# Altium footprint library CP2102-GM.PcbLib: 3 footprints
Each footprint in its own frame and in the unit in brackets; x right, y up, seen from the top. Pads: shape width x height; smd on the part's side, far side on the other; paste and mask are expansions set on the pad; w line width, h text height; cw(c..) or ccw(c..) is an arc to the next point about the centre after c.
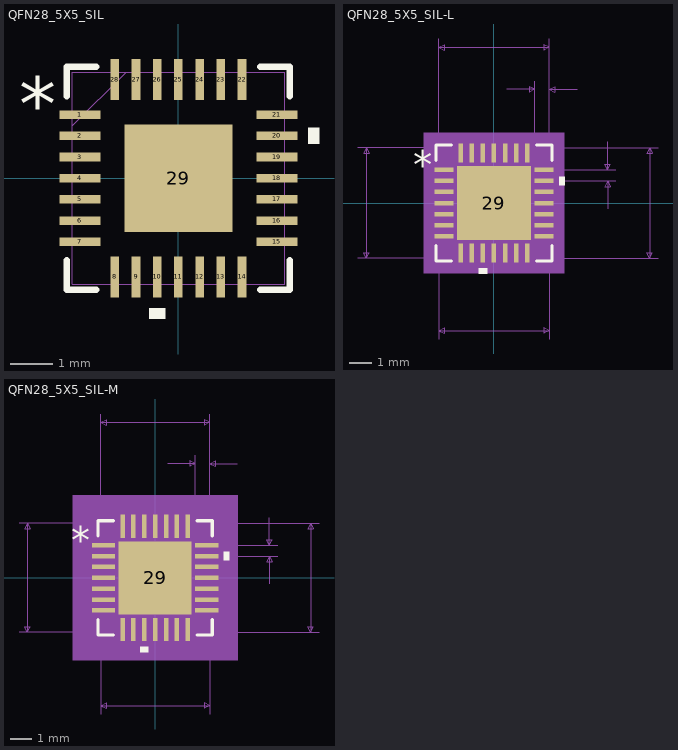
[diagram p0: the footprints below, top view; thin cyan lines are the x and y axes]

## QFN28_5X5_SIL [mil]
pads (29):
  rect 38x8 smd paste+0 mask+0: 1(-91.5,59.06) 2(-91.5,39.37) 3(-91.5,19.68) 4(-91.5,0) 5(-91.5,-19.68) 6(-91.5,-39.37) 7(-91.5,-59.06) 15(91.5,-59.06) 16(91.5,-39.37) 17(91.5,-19.68) 18(91.5,0) 19(91.5,19.68) 20(91.5,39.37) 21(91.5,59.06)
  rect 8x38 smd paste+0 mask+0: 8(-59.06,-91.5) 9(-39.37,-91.5) 10(-19.68,-91.5) 11(0,-91.5) 12(19.68,-91.5) 13(39.37,-91.5) 14(59.06,-91.5) 22(59.06,91.5) 23(39.37,91.5) 24(19.68,91.5) 25(0,91.5) 26(-19.68,91.5) 27(-39.37,91.5) 28(-59.06,91.5)
  rect 100x100 smd paste-65.5 mask+0: 29(0,0)
Top Overlay:
  region: -12.19,-120.5 -27.18,-120.5 -27.18,-130.5 -12.19,-130.5
  region: 120.5,46.87 130.5,46.87 130.5,31.87 120.5,31.87
  lines w6: -103.5,-76.16 -103.5,-103.5 -76.16,-103.5 ; -103.5,76.16 -103.5,103.5 -76.16,103.5 ; 76.16,-103.5 103.5,-103.5 103.5,-76.16 ; 76.16,103.5 103.5,103.5 103.5,76.16
  text "*" at -148,43.9 h50
Top Paste:
  region: -3.94,50 -50,50 -50,3.94 -3.94,3.94
  region: -3.94,-3.94 -50,-3.94 -50,-50 -3.94,-50
  region: 50,50 3.94,50 3.94,3.94 50,3.94
  region: 50,-3.94 3.94,-3.94 3.94,-50 50,-50
Mechanical 13:
  lines w1: -98.5,48.5 -48.5,98.5 ; -98.5,-98.5 98.5,-98.5 98.5,98.5 -98.5,98.5 -98.5,-98.5 ; -98.5,-65.06 -98.5,-53.06 -98.5,-65.06 ; -98.5,-45.37 -98.5,-33.37 -98.5,-45.37 ; -98.5,-25.68 -98.5,-13.69 -98.5,-25.68 ; -98.5,-6 -98.5,6 -98.5,-6 ; -98.5,13.69 -98.5,25.68 -98.5,13.69 ; -98.5,33.37 -98.5,45.37 -98.5,33.37 ; -98.5,53.06 -98.5,65.06 -98.5,53.06 ; -65.06,-98.5 -53.06,-98.5 -65.06,-98.5 ; -65.06,98.5 -53.06,98.5 -65.06,98.5 ; -45.37,-98.5 -33.37,-98.5 -45.37,-98.5 ; -45.37,98.5 -33.37,98.5 -45.37,98.5 ; -25.68,-98.5 -13.69,-98.5 -25.68,-98.5 ; -25.68,98.5 -13.69,98.5 -25.68,98.5 ; -6,-98.5 6,-98.5 -6,-98.5 ; -6,98.5 6,98.5 -6,98.5 ; 13.69,-98.5 25.68,-98.5 13.69,-98.5 ; 13.69,98.5 25.68,98.5 13.69,98.5 ; 33.37,-98.5 45.37,-98.5 33.37,-98.5 ; 33.37,98.5 45.37,98.5 33.37,98.5 ; 53.06,-98.5 65.06,-98.5 53.06,-98.5 ; 53.06,98.5 65.06,98.5 53.06,98.5 ; 98.5,-65.06 98.5,-53.06 98.5,-65.06 ; 98.5,-45.37 98.5,-33.37 98.5,-45.37 ; 98.5,-25.68 98.5,-13.69 98.5,-25.68 ; 98.5,-6 98.5,6 98.5,-6 ; 98.5,13.69 98.5,25.68 98.5,13.69 ; 98.5,33.37 98.5,45.37 98.5,33.37 ; 98.5,53.06 98.5,65.06 98.5,53.06
  text "*" at -85,43.9 h50
3D body: height 10, standoff 0, extent 0,0 10,10
3D body "QFN28_5X5_SIL.step": height 37.09, standoff 0, extent -98.49,-98.5 98.51,98.51

## QFN28_5X5_SIL-L [mil]
pads (29):
  rect 34x8 smd paste+0 mask+0: 1(-89.5,59.06) 2(-89.5,39.37) 3(-89.5,19.68) 4(-89.5,0) 5(-89.5,-19.68) 6(-89.5,-39.37) 7(-89.5,-59.06) 15(89.5,-59.06) 16(89.5,-39.37) 17(89.5,-19.68) 18(89.5,0) 19(89.5,19.68) 20(89.5,39.37) 21(89.5,59.06)
  rect 8x34 smd paste+0 mask+0: 8(-59.06,-89.5) 9(-39.37,-89.5) 10(-19.68,-89.5) 11(0,-89.5) 12(19.68,-89.5) 13(39.37,-89.5) 14(59.06,-89.5) 22(59.06,89.5) 23(39.37,89.5) 24(19.68,89.5) 25(0,89.5) 26(-19.68,89.5) 27(-39.37,89.5) 28(-59.06,89.5)
  rect 132x132 smd paste-65.5 mask+0: 29(0,0)
Top Overlay:
  region: -12.19,-116.5 -27.18,-116.5 -27.18,-126.5 -12.19,-126.5
  region: 116.5,46.87 126.5,46.87 126.5,31.87 116.5,31.87
  lines w6: -103.5,-76.16 -103.5,-103.5 -76.16,-103.5 ; -103.5,76.16 -103.5,103.5 -76.16,103.5 ; 76.16,-103.5 103.5,-103.5 103.5,-76.16 ; 76.16,103.5 103.5,103.5 103.5,76.16
  text "*" at -144,43.9 h50
Top Paste:
  region: -3.94,62.06 -62.06,62.06 -62.06,3.94 -3.94,3.94
  region: -3.94,-3.94 -62.06,-3.94 -62.06,-62.06 -3.94,-62.06
  region: 62.06,62.06 3.94,62.06 3.94,3.94 62.06,3.94
  region: 62.06,-3.94 3.94,-3.94 3.94,-62.06 62.06,-62.06
Mechanical 5:
  region: 125.5,-125.5 -125.5,-125.5 -125.5,125.5 125.5,125.5
Mechanical 7:
  lines w1: -242.5,-98.5 98.5,-98.5 ; -242.5,98.5 98.5,98.5 98.5,-242.5 ; -98.5,-242.5 -98.5,98.5 ; -98.5,59.06 -98.5,292.5 ; 22.5,202.5 72.5,202.5 ; 59.06,-98.5 292.5,-98.5 ; 59.06,98.5 292.5,98.5 ; 72.5,59.06 72.5,217.5 ; 89.5,39.37 217.5,39.37 ; 89.5,59.06 217.5,59.06 ; 98.5,217.5 98.5,59.06 98.5,292.5 ; 148.5,202.5 98.5,202.5 ; 202.5,-10.63 202.5,39.37 ; 202.5,109.06 202.5,59.06 ; -227.5,-98.5 -227.5,98.5 ; -227.5,-98.5 -232.5,-88.5 -222.5,-88.5 -227.5,-98.5 ; -227.5,98.5 -232.5,88.5 -222.5,88.5 -227.5,98.5 ; -98.5,-227.5 98.5,-227.5 ; -98.5,-227.5 -88.5,-222.5 -88.5,-232.5 -98.5,-227.5 ; -98.5,277.5 98.5,277.5 ; -98.5,277.5 -88.5,282.5 -88.5,272.5 -98.5,277.5 ; 72.5,202.5 62.5,207.5 62.5,197.5 72.5,202.5 ; 98.5,-227.5 88.5,-222.5 88.5,-232.5 98.5,-227.5 ; 98.5,202.5 108.5,207.5 108.5,197.5 98.5,202.5 ; 98.5,277.5 88.5,282.5 88.5,272.5 98.5,277.5 ; 202.5,39.37 197.5,29.37 207.5,29.37 202.5,39.37 ; 202.5,59.06 197.5,69.06 207.5,69.06 202.5,59.06 ; 277.5,-98.5 277.5,98.5 ; 277.5,-98.5 272.5,-88.5 282.5,-88.5 277.5,-98.5 ; 277.5,98.5 272.5,88.5 282.5,88.5 277.5,98.5
  text "Default Padstyle: RX8Y34D0T" at -337.5,-416.5 h50
  text "Heat Tab Padstyle: RX132Y132D0T" at -387.5,-476.5 h50
  text "Alt 1 Padstyle: OX60Y90D30P" at -337.5,-596.5 h50
  text "Alt 2 Padstyle: OX90Y60D30P" at -337.5,-656.5 h50
  text "0.02in/0.5mm" at 222.5,36.71 h25
  text "0.026in/0.66mm" at -2,222.5 h25
  text "0.197in/5.004mm" at -93.75,297.5 h25
  text "0.197in/5.004mm" at 297.5,-12.5 h25
  text "0.197in/5.004mm" at -435,-12.5 h25
  text "0.197in/5.004mm" at -93.75,-272.5 h25
Mechanical 13:
  lines w1: -98.5,48.5 -48.5,98.5 ; -98.5,-98.5 98.5,-98.5 ; -98.5,-98.5 -98.5,98.5 ; -98.5,-98.5 -98.5,-98.5 ; -98.5,-65.06 -98.5,-53.06 ; -98.5,-65.06 -98.5,-53.06 ; -98.5,-65.06 -98.5,-65.06 ; -98.5,-53.06 -98.5,-53.06 ; -98.5,-45.37 -98.5,-33.37 ; -98.5,-45.37 -98.5,-33.37 ; -98.5,-45.37 -98.5,-45.37 ; -98.5,-33.37 -98.5,-33.37 ; -98.5,-25.68 -98.5,-13.69 ; -98.5,-25.68 -98.5,-13.69 ; -98.5,-25.68 -98.5,-25.68 ; -98.5,-13.69 -98.5,-13.69 ; -98.5,-6 -98.5,6 ; -98.5,-6 -98.5,6 ; -98.5,-6 -98.5,-6 ; -98.5,6 -98.5,6 ; -98.5,13.69 -98.5,25.68 ; -98.5,13.69 -98.5,25.68 ; -98.5,13.69 -98.5,13.69 ; -98.5,25.68 -98.5,25.68 ; -98.5,33.37 -98.5,45.37 ; -98.5,33.37 -98.5,45.37 ; -98.5,33.37 -98.5,33.37 ; -98.5,45.37 -98.5,45.37 ; -98.5,53.06 -98.5,65.06 ; -98.5,53.06 -98.5,65.06 ; -98.5,53.06 -98.5,53.06 ; -98.5,65.06 -98.5,65.06 ; -98.5,98.5 98.5,98.5 ; -98.5,98.5 -98.5,98.5 ; -65.06,-98.5 -53.06,-98.5 ; -65.06,-98.5 -65.06,-98.5 ; -65.06,-98.5 -53.06,-98.5 ; -65.06,98.5 -53.06,98.5 ; -65.06,98.5 -53.06,98.5 ; -65.06,98.5 -65.06,98.5 ; -53.06,-98.5 -53.06,-98.5 ; -53.06,98.5 -53.06,98.5 ; -45.37,-98.5 -33.37,-98.5 ; -45.37,-98.5 -45.37,-98.5 ; -45.37,-98.5 -33.37,-98.5 ; -45.37,98.5 -33.37,98.5 ; -45.37,98.5 -33.37,98.5 ; -45.37,98.5 -45.37,98.5 ; -33.37,-98.5 -33.37,-98.5 ; -33.37,98.5 -33.37,98.5 ; -25.68,-98.5 -13.69,-98.5 ; -25.68,-98.5 -25.68,-98.5 ; -25.68,-98.5 -13.69,-98.5 ; -25.68,98.5 -13.69,98.5 ; -25.68,98.5 -13.69,98.5 ; -25.68,98.5 -25.68,98.5 ; -13.69,-98.5 -13.69,-98.5 ; -13.69,98.5 -13.69,98.5 ; -6,-98.5 6,-98.5 ; -6,-98.5 -6,-98.5 ; -6,-98.5 6,-98.5 ; -6,98.5 6,98.5 ; -6,98.5 6,98.5 ; -6,98.5 -6,98.5 ; 6,-98.5 6,-98.5 ; 6,98.5 6,98.5 ; 13.69,-98.5 25.68,-98.5 ; 13.69,-98.5 13.69,-98.5 ; 13.69,-98.5 25.68,-98.5 ; 13.69,98.5 25.68,98.5 ; 13.69,98.5 25.68,98.5 ; 13.69,98.5 13.69,98.5 ; 25.68,-98.5 25.68,-98.5 ; 25.68,98.5 25.68,98.5 ; 33.37,-98.5 45.37,-98.5 ; 33.37,-98.5 33.37,-98.5 ; 33.37,-98.5 45.37,-98.5 ; 33.37,98.5 45.37,98.5 ; 33.37,98.5 45.37,98.5 ; 33.37,98.5 33.37,98.5 ; 45.37,-98.5 45.37,-98.5 ; 45.37,98.5 45.37,98.5 ; 53.06,-98.5 65.06,-98.5 ; 53.06,-98.5 53.06,-98.5 ; 53.06,-98.5 65.06,-98.5 ; 53.06,98.5 65.06,98.5 ; 53.06,98.5 65.06,98.5 ; 53.06,98.5 53.06,98.5 ; 65.06,-98.5 65.06,-98.5 ; 65.06,98.5 65.06,98.5 ; 98.5,-98.5 98.5,-98.5 ; 98.5,-98.5 98.5,98.5 ; 98.5,-65.06 98.5,-53.06 ; 98.5,-65.06 98.5,-65.06 ; 98.5,-65.06 98.5,-53.06 ; 98.5,-53.06 98.5,-53.06 ; 98.5,-45.37 98.5,-33.37 ; 98.5,-45.37 98.5,-45.37 ; 98.5,-45.37 98.5,-33.37 ; 98.5,-33.37 98.5,-33.37 ; 98.5,-25.68 98.5,-13.69 ; 98.5,-25.68 98.5,-25.68 ; 98.5,-25.68 98.5,-13.69 ; 98.5,-13.69 98.5,-13.69 ; 98.5,-6 98.5,6 ; 98.5,-6 98.5,-6 ; 98.5,-6 98.5,6 ; 98.5,6 98.5,6 ; 98.5,13.69 98.5,25.68 ; 98.5,13.69 98.5,13.69 ; 98.5,13.69 98.5,25.68 ; 98.5,25.68 98.5,25.68 ; 98.5,33.37 98.5,45.37 ; 98.5,33.37 98.5,33.37 ; 98.5,33.37 98.5,45.37 ; 98.5,45.37 98.5,45.37 ; 98.5,53.06 98.5,65.06 ; 98.5,53.06 98.5,53.06 ; 98.5,53.06 98.5,65.06 ; 98.5,65.06 98.5,65.06 ; 98.5,98.5 98.5,98.5
  text "*" at -85,43.9 h50
Mechanical 15:
  region: -67.06,-102.5 -102.5,-102.5 -102.5,-67.06 -110.5,-67.06 -110.5,67.06 -102.5,67.06 -102.5,102.5 -67.06,102.5 -67.06,110.5 67.06,110.5 67.06,102.5 102.5,102.5 102.5,67.06 110.5,67.06 110.5,-67.06 102.5,-67.06 102.5,-102.5 67.06,-102.5 67.06,-110.5 -67.06,-110.5
  lines w6: -110.5,-67.06 -102.5,-67.06 -102.5,-102.5 -67.06,-102.5 -67.06,-110.5 67.06,-110.5 67.06,-102.5 102.5,-102.5 102.5,-67.06 110.5,-67.06 110.5,67.06 102.5,67.06 102.5,102.5 67.06,102.5 67.06,110.5 -67.06,110.5 -67.06,102.5 -102.5,102.5 -102.5,67.06 -110.5,67.06 -110.5,-67.06
3D body: height 10, standoff 0, extent 0,0 10,10

## QFN28_5X5_SIL-M [mil]
pads (29):
  rect 42x8 smd paste+0 mask+0: 1(-93.5,59.06) 2(-93.5,39.37) 3(-93.5,19.68) 4(-93.5,0) 5(-93.5,-19.68) 6(-93.5,-39.37) 7(-93.5,-59.06) 15(93.5,-59.06) 16(93.5,-39.37) 17(93.5,-19.68) 18(93.5,0) 19(93.5,19.68) 20(93.5,39.37) 21(93.5,59.06)
  rect 8x42 smd paste+0 mask+0: 8(-59.06,-93.5) 9(-39.37,-93.5) 10(-19.68,-93.5) 11(0,-93.5) 12(19.68,-93.5) 13(39.37,-93.5) 14(59.06,-93.5) 22(59.06,93.5) 23(39.37,93.5) 24(19.68,93.5) 25(0,93.5) 26(-19.68,93.5) 27(-39.37,93.5) 28(-59.06,93.5)
  rect 132x132 smd paste-65.5 mask+0: 29(0,0)
Top Overlay:
  region: -12.19,-124.5 -27.18,-124.5 -27.18,-134.5 -12.19,-134.5
  region: 124.5,46.87 134.5,46.87 134.5,31.87 124.5,31.87
  lines w6: -103.5,-76.16 -103.5,-103.5 -76.16,-103.5 ; -103.5,76.16 -103.5,103.5 -76.16,103.5 ; 76.16,-103.5 103.5,-103.5 103.5,-76.16 ; 76.16,103.5 103.5,103.5 103.5,76.16
  text "*" at -152,43.9 h50
Top Paste:
  region: -3.94,62.06 -62.06,62.06 -62.06,3.94 -3.94,3.94
  region: -3.94,-3.94 -62.06,-3.94 -62.06,-62.06 -3.94,-62.06
  region: 62.06,62.06 3.94,62.06 3.94,3.94 62.06,3.94
  region: 62.06,-3.94 3.94,-3.94 3.94,-62.06 62.06,-62.06
Mechanical 5:
  region: 149.5,-149.5 -149.5,-149.5 -149.5,149.5 149.5,149.5
Mechanical 7:
  lines w1: -246.5,-98.5 98.5,-98.5 ; -246.5,98.5 98.5,98.5 98.5,-246.5 ; -98.5,-246.5 -98.5,98.5 ; -98.5,59.06 -98.5,296.5 ; 22.5,206.5 72.5,206.5 ; 59.06,-98.5 296.5,-98.5 ; 59.06,98.5 296.5,98.5 ; 72.5,59.06 72.5,221.5 ; 93.5,39.37 221.5,39.37 ; 93.5,59.06 221.5,59.06 ; 98.5,221.5 98.5,59.06 98.5,296.5 ; 148.5,206.5 98.5,206.5 ; 206.5,-10.63 206.5,39.37 ; 206.5,109.06 206.5,59.06 ; -231.5,-98.5 -231.5,98.5 ; -231.5,-98.5 -236.5,-88.5 -226.5,-88.5 -231.5,-98.5 ; -231.5,98.5 -236.5,88.5 -226.5,88.5 -231.5,98.5 ; -98.5,-231.5 98.5,-231.5 ; -98.5,-231.5 -88.5,-226.5 -88.5,-236.5 -98.5,-231.5 ; -98.5,281.5 98.5,281.5 ; -98.5,281.5 -88.5,286.5 -88.5,276.5 -98.5,281.5 ; 72.5,206.5 62.5,211.5 62.5,201.5 72.5,206.5 ; 98.5,-231.5 88.5,-226.5 88.5,-236.5 98.5,-231.5 ; 98.5,206.5 108.5,211.5 108.5,201.5 98.5,206.5 ; 98.5,281.5 88.5,286.5 88.5,276.5 98.5,281.5 ; 206.5,39.37 201.5,29.37 211.5,29.37 206.5,39.37 ; 206.5,59.06 201.5,69.06 211.5,69.06 206.5,59.06 ; 281.5,-98.5 281.5,98.5 ; 281.5,-98.5 276.5,-88.5 286.5,-88.5 281.5,-98.5 ; 281.5,98.5 276.5,88.5 286.5,88.5 281.5,98.5
  text "Default Padstyle: RX8Y42D0T" at -337.5,-424.5 h50
  text "Heat Tab Padstyle: RX132Y132D0T" at -387.5,-484.5 h50
  text "Alt 1 Padstyle: OX60Y90D30P" at -337.5,-604.5 h50
  text "Alt 2 Padstyle: OX90Y60D30P" at -337.5,-664.5 h50
  text "0.02in/0.5mm" at 226.5,36.71 h25
  text "0.026in/0.66mm" at -2,226.5 h25
  text "0.197in/5.004mm" at -93.75,301.5 h25
  text "0.197in/5.004mm" at 301.5,-12.5 h25
  text "0.197in/5.004mm" at -439,-12.5 h25
  text "0.197in/5.004mm" at -93.75,-276.5 h25
Mechanical 13:
  lines w1: -98.5,48.5 -48.5,98.5 ; -98.5,-98.5 98.5,-98.5 ; -98.5,-98.5 -98.5,98.5 ; -98.5,-98.5 -98.5,-98.5 ; -98.5,-65.06 -98.5,-53.06 ; -98.5,-65.06 -98.5,-53.06 ; -98.5,-65.06 -98.5,-65.06 ; -98.5,-53.06 -98.5,-53.06 ; -98.5,-45.37 -98.5,-33.37 ; -98.5,-45.37 -98.5,-33.37 ; -98.5,-45.37 -98.5,-45.37 ; -98.5,-33.37 -98.5,-33.37 ; -98.5,-25.68 -98.5,-13.69 ; -98.5,-25.68 -98.5,-13.69 ; -98.5,-25.68 -98.5,-25.68 ; -98.5,-13.69 -98.5,-13.69 ; -98.5,-6 -98.5,6 ; -98.5,-6 -98.5,6 ; -98.5,-6 -98.5,-6 ; -98.5,6 -98.5,6 ; -98.5,13.69 -98.5,25.68 ; -98.5,13.69 -98.5,25.68 ; -98.5,13.69 -98.5,13.69 ; -98.5,25.68 -98.5,25.68 ; -98.5,33.37 -98.5,45.37 ; -98.5,33.37 -98.5,45.37 ; -98.5,33.37 -98.5,33.37 ; -98.5,45.37 -98.5,45.37 ; -98.5,53.06 -98.5,65.06 ; -98.5,53.06 -98.5,65.06 ; -98.5,53.06 -98.5,53.06 ; -98.5,65.06 -98.5,65.06 ; -98.5,98.5 98.5,98.5 ; -98.5,98.5 -98.5,98.5 ; -65.06,-98.5 -53.06,-98.5 ; -65.06,-98.5 -65.06,-98.5 ; -65.06,-98.5 -53.06,-98.5 ; -65.06,98.5 -53.06,98.5 ; -65.06,98.5 -53.06,98.5 ; -65.06,98.5 -65.06,98.5 ; -53.06,-98.5 -53.06,-98.5 ; -53.06,98.5 -53.06,98.5 ; -45.37,-98.5 -33.37,-98.5 ; -45.37,-98.5 -45.37,-98.5 ; -45.37,-98.5 -33.37,-98.5 ; -45.37,98.5 -33.37,98.5 ; -45.37,98.5 -33.37,98.5 ; -45.37,98.5 -45.37,98.5 ; -33.37,-98.5 -33.37,-98.5 ; -33.37,98.5 -33.37,98.5 ; -25.68,-98.5 -13.69,-98.5 ; -25.68,-98.5 -25.68,-98.5 ; -25.68,-98.5 -13.69,-98.5 ; -25.68,98.5 -13.69,98.5 ; -25.68,98.5 -13.69,98.5 ; -25.68,98.5 -25.68,98.5 ; -13.69,-98.5 -13.69,-98.5 ; -13.69,98.5 -13.69,98.5 ; -6,-98.5 6,-98.5 ; -6,-98.5 -6,-98.5 ; -6,-98.5 6,-98.5 ; -6,98.5 6,98.5 ; -6,98.5 6,98.5 ; -6,98.5 -6,98.5 ; 6,-98.5 6,-98.5 ; 6,98.5 6,98.5 ; 13.69,-98.5 25.68,-98.5 ; 13.69,-98.5 13.69,-98.5 ; 13.69,-98.5 25.68,-98.5 ; 13.69,98.5 25.68,98.5 ; 13.69,98.5 25.68,98.5 ; 13.69,98.5 13.69,98.5 ; 25.68,-98.5 25.68,-98.5 ; 25.68,98.5 25.68,98.5 ; 33.37,-98.5 45.37,-98.5 ; 33.37,-98.5 33.37,-98.5 ; 33.37,-98.5 45.37,-98.5 ; 33.37,98.5 45.37,98.5 ; 33.37,98.5 45.37,98.5 ; 33.37,98.5 33.37,98.5 ; 45.37,-98.5 45.37,-98.5 ; 45.37,98.5 45.37,98.5 ; 53.06,-98.5 65.06,-98.5 ; 53.06,-98.5 53.06,-98.5 ; 53.06,-98.5 65.06,-98.5 ; 53.06,98.5 65.06,98.5 ; 53.06,98.5 65.06,98.5 ; 53.06,98.5 53.06,98.5 ; 65.06,-98.5 65.06,-98.5 ; 65.06,98.5 65.06,98.5 ; 98.5,-98.5 98.5,-98.5 ; 98.5,-98.5 98.5,98.5 ; 98.5,-65.06 98.5,-53.06 ; 98.5,-65.06 98.5,-65.06 ; 98.5,-65.06 98.5,-53.06 ; 98.5,-53.06 98.5,-53.06 ; 98.5,-45.37 98.5,-33.37 ; 98.5,-45.37 98.5,-45.37 ; 98.5,-45.37 98.5,-33.37 ; 98.5,-33.37 98.5,-33.37 ; 98.5,-25.68 98.5,-13.69 ; 98.5,-25.68 98.5,-25.68 ; 98.5,-25.68 98.5,-13.69 ; 98.5,-13.69 98.5,-13.69 ; 98.5,-6 98.5,6 ; 98.5,-6 98.5,-6 ; 98.5,-6 98.5,6 ; 98.5,6 98.5,6 ; 98.5,13.69 98.5,25.68 ; 98.5,13.69 98.5,13.69 ; 98.5,13.69 98.5,25.68 ; 98.5,25.68 98.5,25.68 ; 98.5,33.37 98.5,45.37 ; 98.5,33.37 98.5,33.37 ; 98.5,33.37 98.5,45.37 ; 98.5,45.37 98.5,45.37 ; 98.5,53.06 98.5,65.06 ; 98.5,53.06 98.5,53.06 ; 98.5,53.06 98.5,65.06 ; 98.5,65.06 98.5,65.06 ; 98.5,98.5 98.5,98.5
  text "*" at -85,43.9 h50
Mechanical 15:
  region: -83.06,-118.5 -118.5,-118.5 -118.5,-83.06 -134.5,-83.06 -134.5,83.06 -118.5,83.06 -118.5,118.5 -83.06,118.5 -83.06,134.5 83.06,134.5 83.06,118.5 118.5,118.5 118.5,83.06 134.5,83.06 134.5,-83.06 118.5,-83.06 118.5,-118.5 83.06,-118.5 83.06,-134.5 -83.06,-134.5
  lines w6: -134.5,-83.06 -118.5,-83.06 -118.5,-118.5 -83.06,-118.5 -83.06,-134.5 83.06,-134.5 83.06,-118.5 118.5,-118.5 118.5,-83.06 134.5,-83.06 134.5,83.06 118.5,83.06 118.5,118.5 83.06,118.5 83.06,134.5 -83.06,134.5 -83.06,118.5 -118.5,118.5 -118.5,83.06 -134.5,83.06 -134.5,-83.06
3D body: height 10, standoff 0, extent 0,0 10,10